# Altium schematic symbol library SCH - MCU - NUVOTON - NUVOTON NUC220VE3AN.SchLib: 1 symbol
Pins are listed as number, name and electrical type; pins without a type are passive.

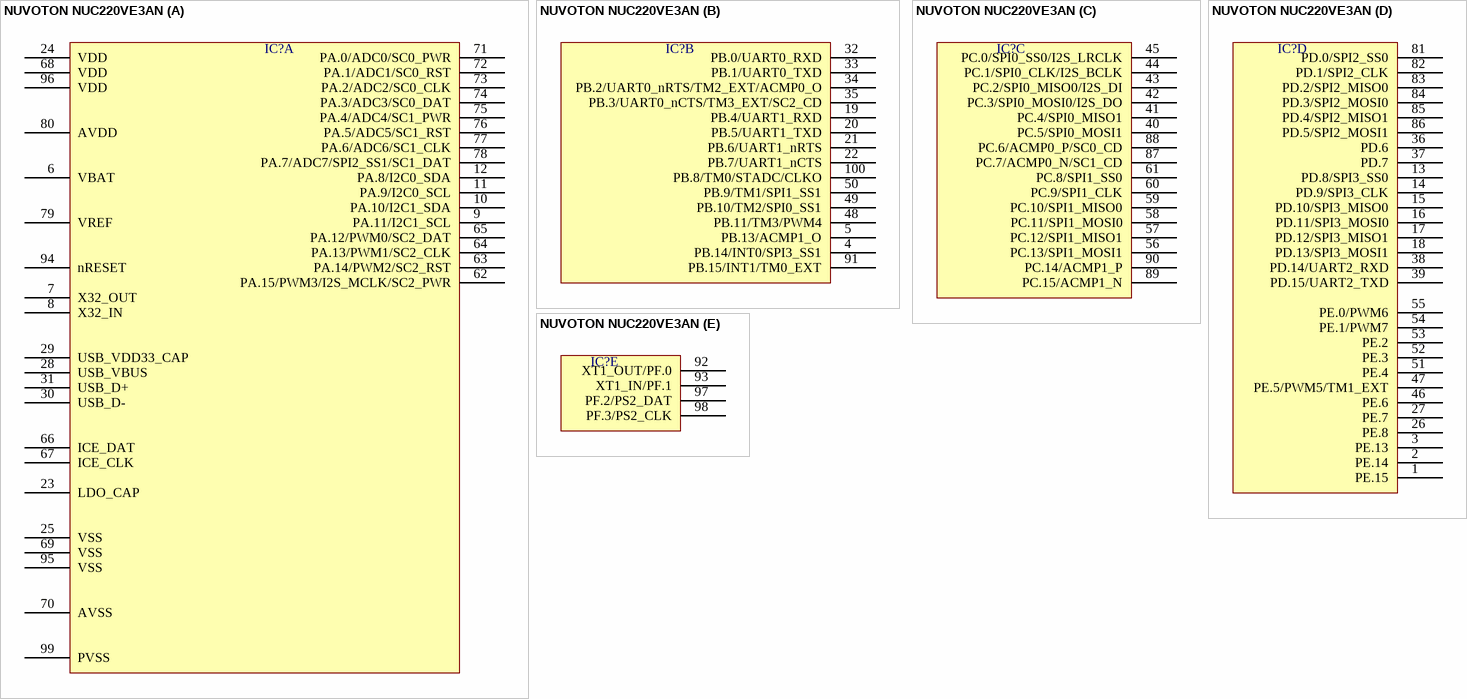
[diagram p0: symbol NUVOTON NUC220VE3AN]

## NUVOTON NUC220VE3AN
designator IC?  (value not drawn)
part A pins: 6 VBAT, 7 X32_OUT, 8 X32_IN, 9 PA.11/I2C1_SCL, 10 PA.10/I2C1_SDA, 11 PA.9/I2C0_SCL, 12 PA.8/I2C0_SDA, 23 LDO_CAP, 24 VDD, 25 VSS, 28 USB_VBUS, 29 USB_VDD33_CAP, 30 USB_D-, 31 USB_D+, 62 PA.15/PWM3/I2S_MCLK/SC2_PWR, 63 PA.14/PWM2/SC2_RST, 64 PA.13/PWM1/SC2_CLK, 65 PA.12/PWM0/SC2_DAT, 66 ICE_DAT, 67 ICE_CLK, 68 VDD, 69 VSS, 70 AVSS, 71 PA.0/ADC0/SC0_PWR, 72 PA.1/ADC1/SC0_RST, 73 PA.2/ADC2/SC0_CLK, 74 PA.3/ADC3/SC0_DAT, 75 PA.4/ADC4/SC1_PWR, 76 PA.5/ADC5/SC1_RST, 77 PA.6/ADC6/SC1_CLK, 78 PA.7/ADC7/SPI2_SS1/SC1_DAT, 79 VREF, 80 AVDD, 94 nRESET, 95 VSS, 96 VDD, 99 PVSS
part B pins: 4 PB.14/INT0/SPI3_SS1, 5 PB.13/ACMP1_O, 19 PB.4/UART1_RXD, 20 PB.5/UART1_TXD, 21 PB.6/UART1_nRTS, 22 PB.7/UART1_nCTS, 32 PB.0/UART0_RXD, 33 PB.1/UART0_TXD, 34 PB.2/UART0_nRTS/TM2_EXT/ACMP0_O, 35 PB.3/UART0_nCTS/TM3_EXT/SC2_CD, 48 PB.11/TM3/PWM4, 49 PB.10/TM2/SPI0_SS1, 50 PB.9/TM1/SPI1_SS1, 91 PB.15/INT1/TM0_EXT, 100 PB.8/TM0/STADC/CLKO
part C pins: 40 PC.5/SPI0_MOSI1, 41 PC.4/SPI0_MISO1, 42 PC.3/SPI0_MOSI0/I2S_DO, 43 PC.2/SPI0_MISO0/I2S_DI, 44 PC.1/SPI0_CLK/I2S_BCLK, 45 PC.0/SPI0_SS0/I2S_LRCLK, 56 PC.13/SPI1_MOSI1, 57 PC.12/SPI1_MISO1, 58 PC.11/SPI1_MOSI0, 59 PC.10/SPI1_MISO0, 60 PC.9/SPI1_CLK, 61 PC.8/SPI1_SS0, 87 PC.7/ACMP0_N/SC1_CD, 88 PC.6/ACMP0_P/SC0_CD, 89 PC.15/ACMP1_N, 90 PC.14/ACMP1_P
part D pins: 1 PE.15, 2 PE.14, 3 PE.13, 13 PD.8/SPI3_SS0, 14 PD.9/SPI3_CLK, 15 PD.10/SPI3_MISO0, 16 PD.11/SPI3_MOSI0, 17 PD.12/SPI3_MISO1, 18 PD.13/SPI3_MOSI1, 26 PE.8, 27 PE.7, 36 PD.6, 37 PD.7, 38 PD.14/UART2_RXD, 39 PD.15/UART2_TXD, 46 PE.6, 47 PE.5/PWM5/TM1_EXT, 51 PE.4, 52 PE.3, 53 PE.2, 54 PE.1/PWM7, 55 PE.0/PWM6, 81 PD.0/SPI2_SS0, 82 PD.1/SPI2_CLK, 83 PD.2/SPI2_MISO0, 84 PD.3/SPI2_MOSI0, 85 PD.4/SPI2_MISO1, 86 PD.5/SPI2_MOSI1
part E pins: 92 XT1_OUT/PF.0, 93 XT1_IN/PF.1, 97 PF.2/PS2_DAT, 98 PF.3/PS2_CLK